# Altium footprint library SOT457a.PcbLib: 1 footprints
Each footprint in its own frame and in the unit in brackets; x right, y up, seen from the top. Pads: shape width x height; smd on the part's side, far side on the other; paste and mask are expansions set on the pad; w line width, h text height; cw(c..) or ccw(c..) is an arc to the next point about the centre after c.
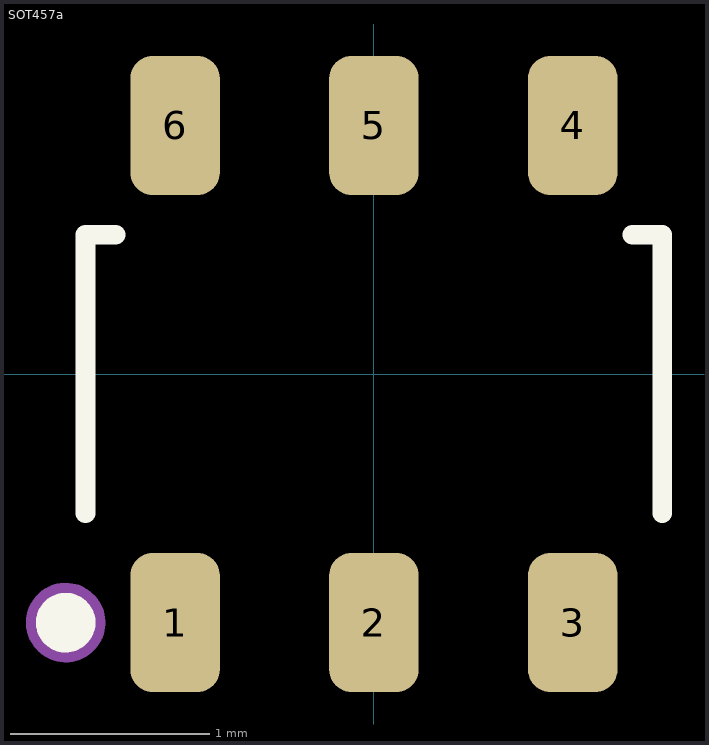
[diagram p0: the footprint, top view; thin cyan lines are the x and y axes]

## SOT457a [mm] "SOT-457/SOT-26/SC-74; 6 Leads; Body 3.1 x 2.6 mm"
height 1.1
pads (6):
  rrect50% 0.45x0.7 smd: 1(-1,-1.25) 2(0,-1.25) 3(1,-1.25) 4(1,1.25) 5(0,1.25) 6(-1,1.25)
Top Overlay:
  circle w0.15: c-1.55,-1.25 r0.075
  lines w0.1: -1.45,-0.7 -1.45,0.7 -1.3,0.7 ; 1.3,0.7 1.45,0.7 1.45,-0.7
Top Assembly:
  circle w0.2: c-1.55,-1.25 r0.1
3D body "SOT26.STEP": height 1.45, standoff 0, extent -1.45,-1.405 1.45,1.405